# EAGLE library part SI4703 (library SparkFun-RF)
Silicon Labs Si4703 FM Tuner Beyond enabling you to tune in to FM radio stations, the Si4703 is also capable of detecting and processing both Radio Data Service (RDS) and Radio Broadcast Data Service (RBDS) information. The Si4703 even does a very good job of filtering and carrier detection. It also enables data such as the station ID and song name to be displayed to the user. SparkFun Products SparkFun FM Tuner Evaluation Board - Si4703 <https://www.sparkfun.com/products/12938> (WRL-12938) SparkFun FM Tuner Basic Breakout - Si4703 <https://www.sparkfun.com/products/11083> (WRL-11083) FabFM Radio Kit <https://www.sparkfun.com/products/11043> (KIT-11043)
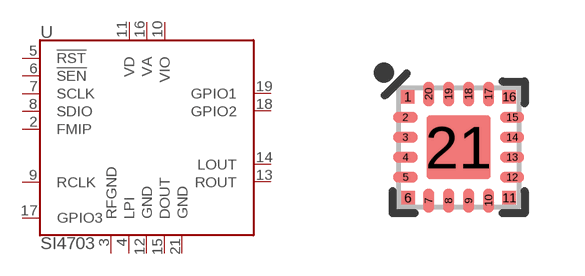
[diagram p10: symbol with the pads of QFN-20-3X3MM; footprint QFN-20-3X3MM]

Designator prefix U

## SI4703 (PROD_ID: IC-10150)  [QFN-20-3X3MM]
2  FMIP
3  RFGND
4  LPI
5  !RST
6  !SEN
7  SCLK
8  SDIO
9  RCLK
10  VIO
11  VD
12  GND
13  ROUT
14  LOUT
15  DOUT
16  VA
17  GPIO3
18  GPIO2
19  GPIO1
21  GND

## Footprint QFN-20-3X3MM (pad centres in mm)
20-Pin QFN Package 3 x 3 mm Used by Silicon Labs Si470x (Si4703, Si4707, etc.) FM Recievier Example Datasheet <https://cdn.sparkfun.com/assets/learn_tutorials/2/7/4/Si4703_datasheet.pdf>
smd 0.34 x 0.34: 1 -1.275,1.265; 6 -1.265,-1.265; 11 1.265,-1.265; 16 1.265,1.265
smd 0.61 x 0.28: 2 -1.335,0.75; 3 -1.335,0.25; 4 -1.335,-0.25; 5 -1.335,-0.75; 12 1.335,-0.75; 13 1.335,-0.25; 14 1.335,0.25; 15 1.335,0.75
smd 0.28 x 0.61: 7 -0.75,-1.335; 8 -0.25,-1.335; 9 0.25,-1.335; 10 0.75,-1.335; 17 0.75,1.335; 18 0.25,1.335; 19 -0.25,1.335; 20 -0.75,1.335
smd 1.6 x 1.6: 21 0,0